# Altium footprint library D2PakMosfet.PcbLib: 2 footprints
Each footprint in its own frame and in the unit in brackets; x right, y up, seen from the top. Pads: shape width x height; smd on the part's side, far side on the other; paste and mask are expansions set on the pad; w line width, h text height; cw(c..) or ccw(c..) is an arc to the next point about the centre after c.
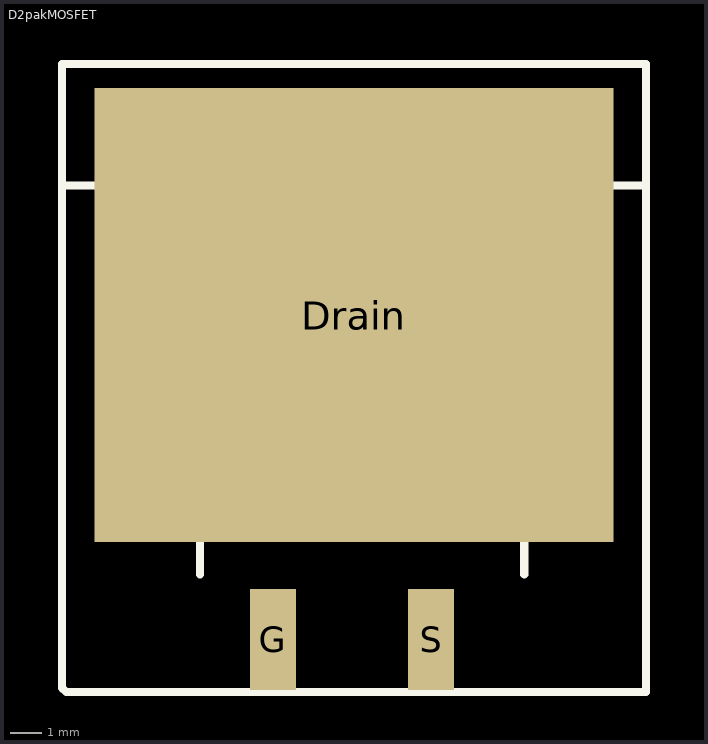
[diagram p0: the footprints below, top view; thin cyan lines are the x and y axes]

## D2pakMOSFET [mil]
pads (3):
  rect 640x560 all layers, no hole: Drain(-43190,43165)
  rect 57x125 all layers, no hole: G(-43290,42765) S(-43095,42765)
Top Overlay:
  lines w10: -43550,43325 -43380,43325 ; -43550,43380 -43550,43475 -42830,43475 -42830,42700 -43545,42700 -43550,42705 -43550,43450 ; -43380,42845 -43380,43325 ; -42980,42845 -42980,43325 ; -42835,43325 -43380,43325

## PCBComponent_1 [mil]